# EAGLE library part 6PIN (library FaBo-Breakout)
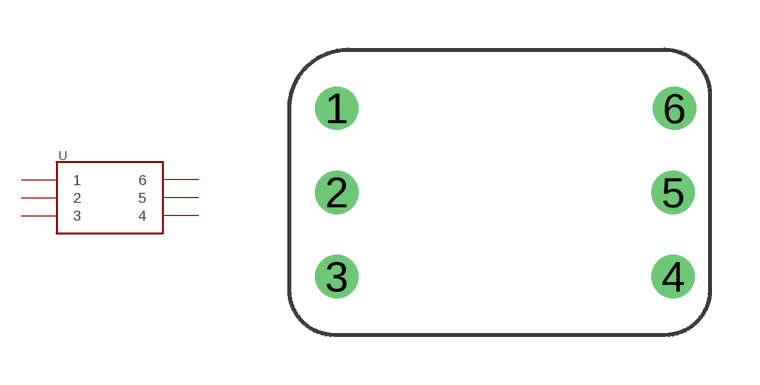
[diagram p2: symbol with the pads of 6PIN; footprint 6PIN]

Designator prefix -

## 6PIN  [6PIN]
1  1
2  2
3  3
4  4
5  5
6  6

## Footprint 6PIN (pad centres in mm)
drill 0.8: 1 -4.92,2.54; 2 -4.92,0; 3 -4.92,-2.54; 4 5.24,-2.54; 5 5.24,0; 6 5.283,2.54